# EAGLE library part 804-106/000-051 (library con-wago_804)
Serie 804, Stand: 01.01.2012. Die jeweils aktuellen Daten zu diesem Artikel finden Sie in unserem Produktkatalog, den Sie unter www.wago.com einsehen können. As of: 01/01/2012. Please find the newest data for this article in our product catalogue, which can be viewed under www.wago.com.
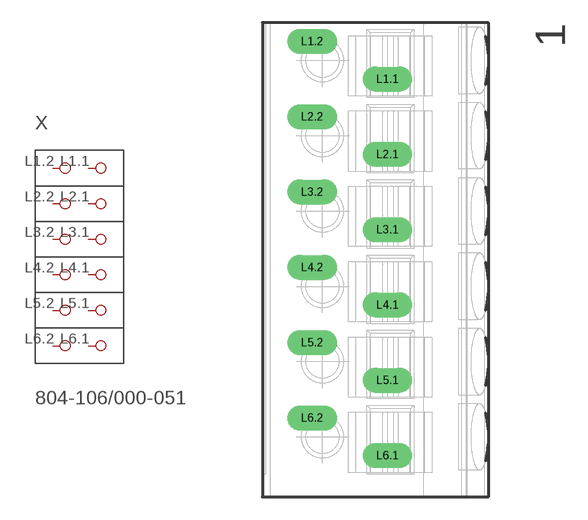
[diagram p123: symbol with the pads of P-804-106; footprint P-804-106]

Designator prefix X

## 804-106/000-051  [P-804-106]
L1.1  P1.1
L1.2  P1.2
L2.1  P2.1
L2.2  P2.2
L3.1  P3.1
L3.2  P3.2
L4.1  P4.1
L4.2  P4.2
L5.1  P5.1
L5.2  P5.2
L6.1  P6.1
L6.2  P6.2

## Footprint P-804-106 (pad centres in mm)
drill 1.1 long: L1.1 0.8,12; L1.2 -4.2,14.5; L2.1 0.8,7; L2.2 -4.2,9.5; L3.1 0.8,2; L3.2 -4.2,4.5; L4.1 0.8,-3; L4.2 -4.2,-0.5; L5.1 0.8,-8; L5.2 -4.2,-5.5; L6.1 0.8,-13; L6.2 -4.2,-10.5